# Altium footprint library CAP-1206-0.95MM.PcbLib: 1 footprints
Each footprint in its own frame and in the unit in brackets; x right, y up, seen from the top. Pads: shape width x height; smd on the part's side, far side on the other; paste and mask are expansions set on the pad; w line width, h text height; cw(c..) or ccw(c..) is an arc to the next point about the centre after c.
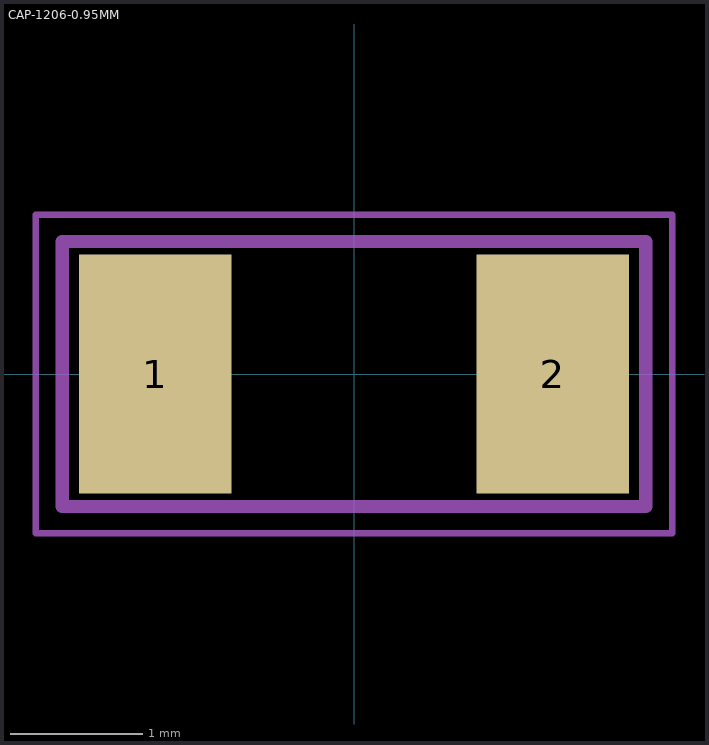
[diagram p0: the footprint, top view; thin cyan lines are the x and y axes]

## CAP-1206-0.95MM [mm] "Standard 1206 capacitor, Height 0.95mm"
height 0.95
pads (2):
  rect 1.15x1.8 smd: 1(-1.5,0) 2(1.5,0)
Top Assembly:
  lines w0.1: -2.2,-1 2.2,-1 2.2,1 -2.2,1 -2.2,-1
Top Courtyard:
  lines w0.05: -2.4,-1.2 2.4,-1.2 2.4,1.2 -2.4,1.2 -2.4,-1.2
Top Designator:
  text ".Designator" at -3.999,-0.267 h0.8
3D body "Ceramic_Capacitor_1206_h38mil.STEP": height 0.96, standoff 0.01, extent -1.6,-0.8 1.6,0.8